# EAGLE library part ARDUINO_NANO (library antennenanalysator_m4_1)
arduino Nano Modul
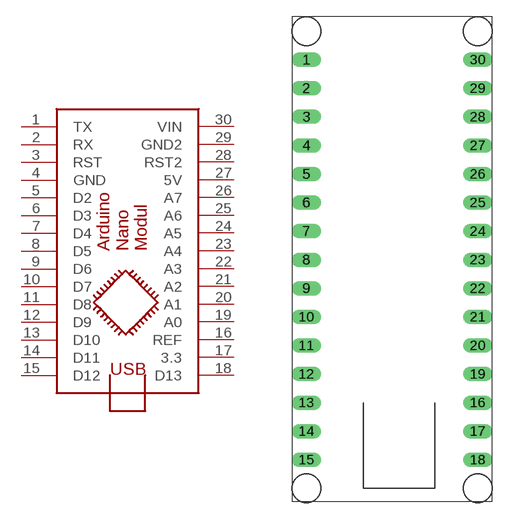
[diagram p1: symbol with the pads of ARDUINO_NANO; footprint ARDUINO_NANO]

Designator prefix IC

## ARDUINO_NANO  [ARDUINO_NANO]
1  TX
2  RX
3  RST
4  GND
5  D2
6  D3
7  D4
8  D5
9  D6
10  D7
11  D8
12  D9
13  D10
14  D11
15  D12
16  REF
17  3.3
18  D13
19  A0
20  A1
21  A2
22  A3
23  A4
24  A5
25  A6
26  A7
27  5V
28  RST2
29  GND2
30  VIN

## Footprint ARDUINO_NANO (pad centres in mm)
arduino nano package /layout
drill 0.8 long: 1 -7.62,19.05; 2 -7.62,16.51; 3 -7.62,13.97; 4 -7.62,11.43; 5 -7.62,8.89; 6 -7.62,6.35; 7 -7.62,3.81; 8 -7.62,1.27; 9 -7.62,-1.27; 10 -7.62,-3.81; 11 -7.62,-6.35; 12 -7.62,-8.89; 13 -7.62,-11.43; 14 -7.62,-13.97; 15 -7.62,-16.51; 16 7.62,-11.43; 17 7.62,-13.97; 18 7.62,-16.51; 19 7.62,-8.89; 20 7.62,-6.35; 21 7.62,-3.81; 22 7.62,-1.27; 23 7.62,1.27; 24 7.62,3.81; 25 7.62,6.35; 26 7.62,8.89; 27 7.62,11.43; 28 7.62,13.97; 29 7.62,16.51; 30 7.62,19.05